# EAGLE library part FINDER4061* (library rele)
RELAY
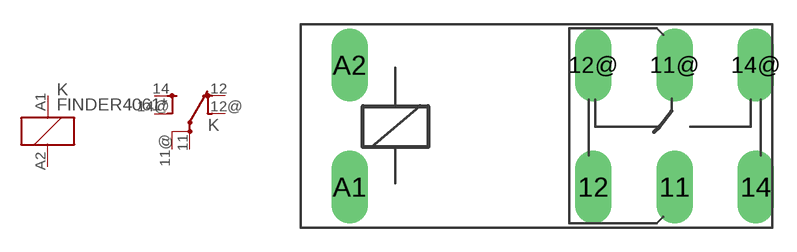
[diagram p16: symbol with the pads of 4061; footprint 4061]

Designator prefix K; gates G$1=K G$2=U-2

## FINDER406112, FINDER406118, FINDER406124, FINDER4061AC230  [4061]
11  G$2:P  pas
11@  G$2:P  pas
12  G$2:O  pas
12@  G$2:O1  pas
14  G$2:S  pas
14@  G$2:S1  pas
A1  G$1:1  pas
A2  G$1:2  pas

## Footprint 4061 (pad centres in mm)
RELAY
drill 1.5 long: 11 8.5,-3.75; 11@ 8.5,3.75; 12 3.5,-3.75; 12@ 3.5,3.75; 14 13.5,-3.75; 14@ 13.5,3.75; A1 -11.5,-3.75; A2 -11.5,3.75